# Altium footprint library Transformers.PcbLib: 13 footprints
Each footprint in its own frame and in the unit in brackets; x right, y up, seen from the top. Pads: shape width x height; smd on the part's side, far side on the other; paste and mask are expansions set on the pad; w line width, h text height; cw(c..) or ccw(c..) is an arc to the next point about the centre after c.
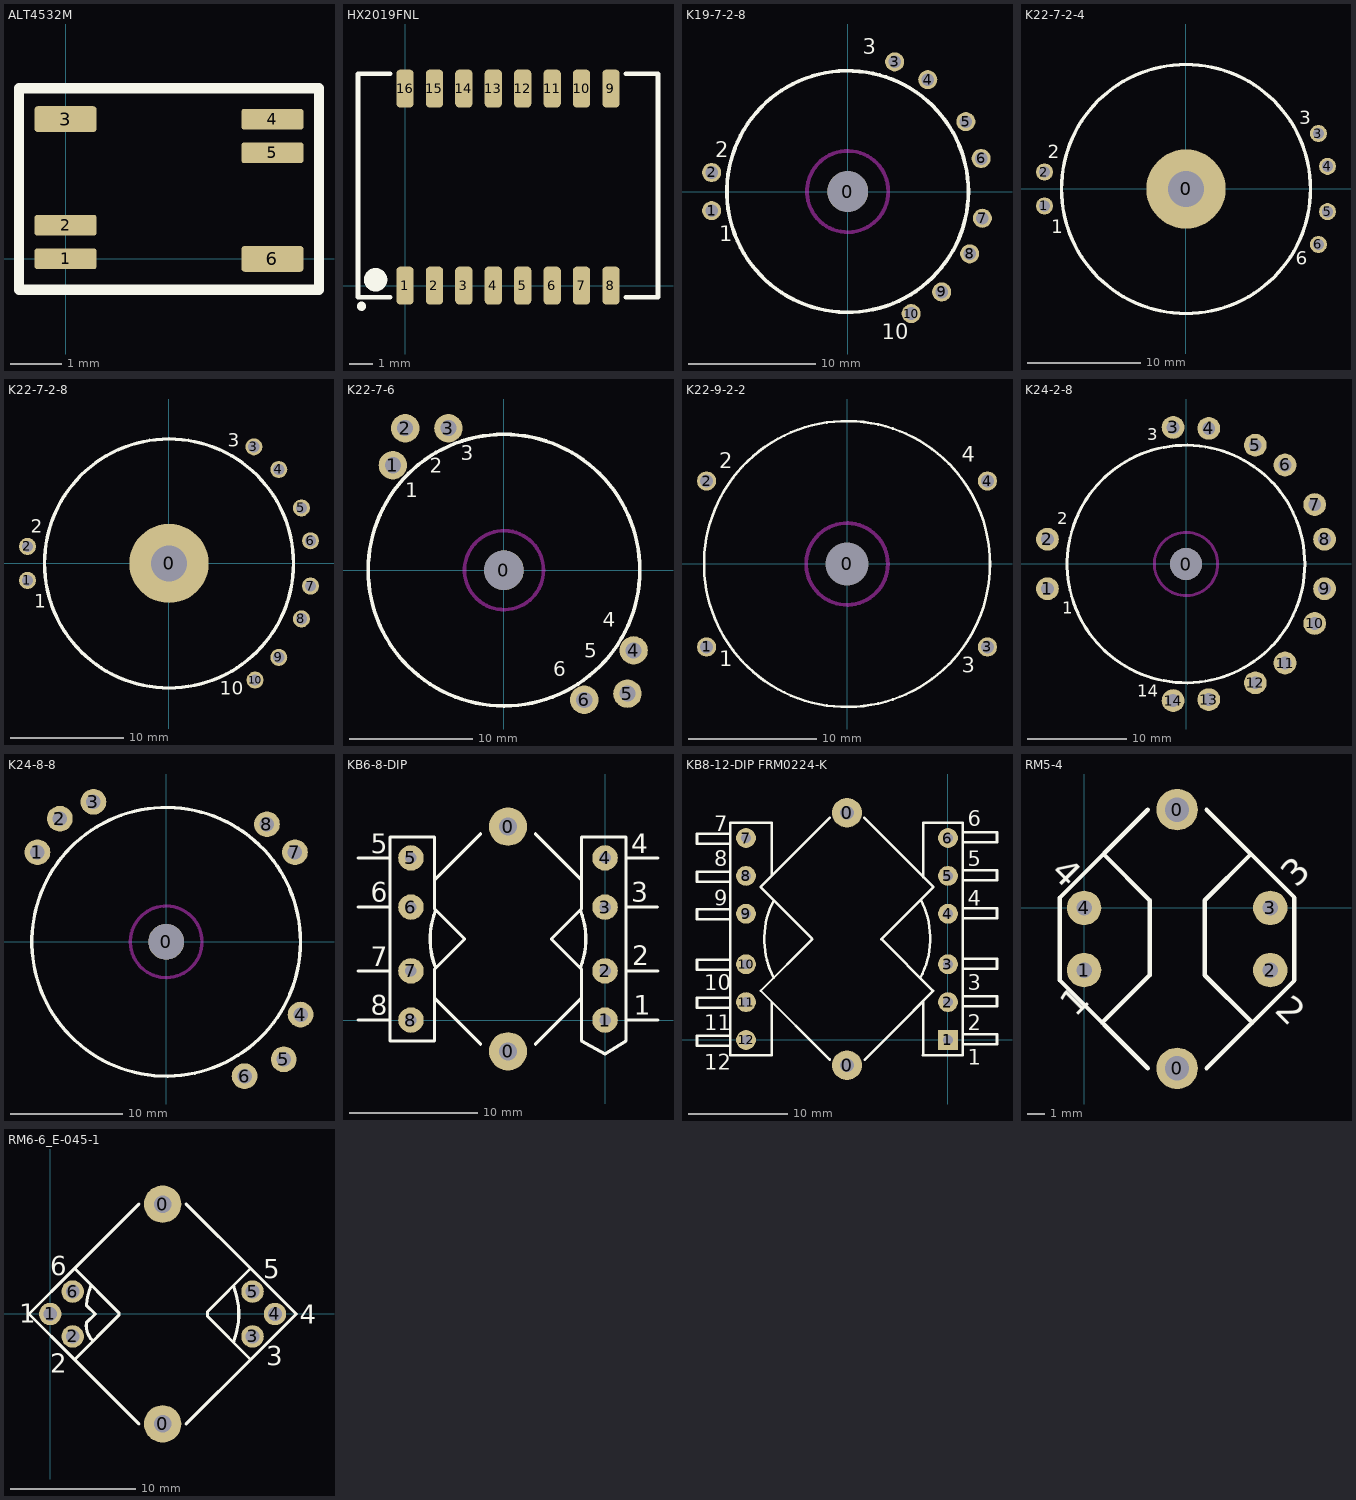
[diagram p0: the footprints below, top view; thin cyan lines are the x and y axes]

## ALT4532M [mm]
pads (6):
  rrect25% 1.2x0.4 smd: 1(0,0) 2(0,0.65) 4(4,2.7) 5(4,2.05)
  rrect25% 1.2x0.5 smd: 3(0,2.7) 6(4,0)
Top Overlay:
  lines w0.2: -0.9,-0.6 4.9,-0.6 4.9,3.3 -0.9,3.3 -0.9,-0.6
Top Assembly:
  text ".Designator" at 6.998,1.017 h1
3D body "User Library-ALT4532M.STEP": height 2.2, standoff 0, extent -0.25,-0.25 4.25,2.95

## HX2019FNL [mm]
pads (16):
  rrect50% 0.75x1.65 smd: 1(0,0) 2(1.27,0) 3(2.54,0) 4(3.81,0) 5(5.08,0) 6(6.35,0) 7(7.62,0) 8(8.89,0) 9(8.89,8.509) 10(7.62,8.509) 11(6.35,8.509) 12(5.08,8.509) 13(3.81,8.509) 14(2.54,8.509) 15(1.27,8.509) 16(0,8.509)
Top Overlay:
  circle w0.2: c-1.878,-0.889 r0.1
  circle w0.5: c-1.27,0.254 r0.254
  lines w0.2: -0.635,-0.508 -2.032,-0.508 -2.032,9.144 -0.635,9.144 ; 9.525,-0.508 10.922,-0.508 10.922,9.144 9.525,9.144
Top Assembly:
  text ".Designator" at -0.498,3.767 h1
3D body "User Library-smt4.STEP": height 5.1, standoff 0, extent -1.905,-0.381 10.795,9.019

## K19-7-2-8 [mm]
height 7
pads (11):
  round 3.2 hole 3.2 unplated: 0(0,0)
  round 1.5 hole 1: 1(-10.7,-1.5) 2(-10.7,1.5) 3(3.7,10.2) 4(6.3,8.8) 5(9.3,5.5) 6(10.5,2.6) 7(10.6,-2.1) 8(9.6,-4.9) 9(7.4,-7.9) 10(5,-9.6)
Top Overlay:
  circle w0.3: c0,0 r9.5
  text "10" at 2.7,-11.6 h1.2
  text "3" at 1.2,10.8 h1.2
  text "2" at -10.4,2.7 h1.2
  text "1" at -10.1,-3.9 h1.2
Keep-Out Layer:
  circle w0.3: c0,0 r3.2
Top Assembly:
  text ".Designator" at -4.998,-0.333 h1
  text "10" at 2.3,-8.2 h1.2
  text "9" at 5.5,-6.7 h1.2
  text "8" at 7.2,-4.5 h1.2
  text "7" at 8.1,-2.4 h1.2
  text "6" at 7.8,1.4 h1.2
  text "5" at 6.8,3.9 h1.2
  text "4" at 4.4,6.4 h1.2
  text "3" at 2.4,7.4 h1.2
  text "2" at -8.8,0.9 h1.2
  text "1" at -8.6,-2.1 h1.2
3D body: height 6, standoff 0, extent -9.5,-9.522 9.5,9.478
3D body: height 7.5, standoff 6, extent -9,-9.022 9,8.978

## K22-7-2-4 [mm]
height 7
pads (7):
  round 7 hole 3.2: 0(0,0)
  round 1.5 hole 1: 1(-12.5,-1.5) 2(-12.5,1.5) 3(11.7,4.9) 4(12.5,2) 5(12.5,-2) 6(11.7,-4.9)
Top Overlay:
  circle w0.3: c0,0 r11
  text "1" at -11.9,-3.9 h1.2
  text "2" at -12.2,2.7 h1.2
  text "3" at 10,5.7 h1.2
  text "6" at 9.7,-6.7 h1.2
Top Assembly:
  text ".Designator" at -4.998,-0.333 h1
  text "1" at -9.8,-2.2 h1.2
  text "2" at -10,0.9 h1.2
  text "3" at 8.5,3.8 h1.2
  text "4" at 9.1,1.2 h1.2
  text "5" at 8.9,-2.3 h1.2
  text "6" at 8.1,-5 h1.2
3D body: height 7, standoff 0, extent -11,-11.022 11,10.978
3D body: height 8.5, standoff 7, extent -10,-10.022 10,9.978

## K22-7-2-8 [mm]
height 7
pads (11):
  round 7 hole 3.2: 0(0,0)
  round 1.5 hole 1: 1(-12.5,-1.5) 2(-12.5,1.5) 3(7.5,10.3) 4(9.7,8.3) 5(11.7,4.9) 6(12.5,2) 7(12.5,-2) 8(11.7,-4.9) 9(9.7,-8.3) 10(7.6,-10.3)
Top Overlay:
  circle w0.3: c0,0 r11
  text "1" at -11.9,-3.9 h1.2
  text "2" at -12.2,2.7 h1.2
  text "3" at 5.2,10.3 h1.2
  text "10" at 4.5,-11.6 h1.2
Keep-Out Layer:
  circle w0.3: c0,0 r3.2
Top Assembly:
  text "1" at -10,-1.8 h1.2
  text "2" at -10.2,0.6 h1.2
  text "3" at 5.2,7.4 h1.2
  text "4" at 7.1,5.5 h1.2
  text "5" at 8.6,3 h1.2
  text "6" at 9.3,0.8 h1.2
  text "7" at 9.5,-2.3 h1.2
  text "8" at 8.6,-4.5 h1.2
  text "9" at 7.2,-6.8 h1.2
  text "10" at 4.7,-8.2 h1.2
  text ".Designator" at -4.998,-0.333 h1
3D body: height 7, standoff 0, extent -11,-11.022 11,10.978
3D body: height 8.5, standoff 7, extent -10,-10.022 10,9.978

## K22-7-6 [mm] "Дроссель"
height 7
pads (7):
  round 3.2 hole 3.2: 0(0,0)
  round 2.3 hole 1.3: 1(-9,8.5) 2(-8,11.5) 3(-4.5,11.5) 4(10.5,-6.5) 5(10,-10) 6(6.5,-10.5)
Top Overlay:
  circle w0.3: c0,0 r11
  text "4" at 8,-5 h2
  text "3" at -3.5,8.5 h2
  text "1" at -8,5.5 h2
  text "2" at -6,7.5 h2
  text "5" at 6.5,-7.5 h2
  text "6" at 4,-9 h2
Keep-Out Layer:
  circle w0.3: c0,0 r3.2
Top Assembly:
  text ".Designator" at -7.618,-0.508 h1.52
3D body: height 8.5, standoff 7, extent -10,-10.022 10,9.978
3D body: height 7, standoff 0, extent -11,-11.022 11,10.978

## K22-9-2-2 [mm] "Дроссель"
height 9
pads (5):
  round 3 hole 3.4 unplated: 0(0,0)
  round 1.5 hole 1: 1(-11,-6.5) 2(-11,6.5) 3(11,-6.5) 4(11,6.5)
Top Overlay:
  circle w0.2: c0,0 r11.2
  text "1" at -10,-8 h1.2
  text "2" at -10,7.5 h1.2
  text "3" at 9,-8.5 h1.2
  text "4" at 9,8 h1.2
Keep-Out Layer:
  circle w0.3: c0,0 r3.2
Top Assembly:
  text ".Designator" at -4.998,-0.333 h1
  text "1" at -0.4,6.4 h2
  text "2" at -0.4,-7.7 h2
3D body "K22_9.STEP": height 9.02, standoff 0.02, extent -11,-11 11,11

## K24-2-8 [mm] "Дроссель"
height 8
pads (15):
  round 3.2 hole 3.2: 0(0,0)
  round 2.3 hole 1.3: 1(-14,-2.5) 2(-14,2.5) 3(-1.3,13.8) 4(2.3,13.7) 5(7,12) 6(10,10) 7(13,6) 8(14,2.5) 9(14,-2.5) 10(13,-6) 11(10,-10) 12(7,-12) 13(2.3,-13.7) 14(-1.3,-13.8)
Top Overlay:
  circle w0.3: c0,0 r12
  text "14" at -4.9,-13.4 h1.2
  text "2" at -13,4 h1.2
  text "1" at -12.5,-5 h1.2
  text "3" at -3.9,12.5 h1.2
Keep-Out Layer:
  circle w0.3: c0,0 r3.2
Top Assembly:
  text ".Designator" at -4.998,-0.333 h1
  text "4" at 1.2,9.8 h1.2
  text "3" at -1.4,10 h1.2
  text "1" at -10.5,-3 h1.2
  text "2" at -10.5,2 h1.2
  text "5" at 4.8,8.5 h1.2
  text "6" at 7.2,6.9 h1.2
  text "7" at 9.7,3.2 h1.2
  text "8" at 10.2,0.8 h1.2
  text "9" at 10.2,-2.4 h1.2
  text "10" at 8.3,-5.2 h1.2
  text "11" at 6.3,-7.8 h1.2
  text "12" at 4.3,-9.7 h1.2
  text "13" at 1,-11.2 h1.2
  text "14" at -2.2,-11.2 h1.2
3D body: height 8, standoff 0, extent -12,-12.022 12,11.978
3D body: height 9.5, standoff 8, extent -10,-10.022 10,9.978

## K24-8-8 [mm] "Дроссель"
height 8
pads (9):
  round 3.2 hole 3.2: 0(0,0)
  round 2.3 hole 1.3: 1(-11.5,8) 2(-9.5,11) 3(-6.5,12.5) 4(12,-6.5) 5(10.5,-10.5) 6(7,-12) 7(11.5,8) 8(9,10.5)
Top Overlay:
  circle w0.3: c0,0 r12
Keep-Out Layer:
  circle w0.3: c0,0 r3.2
Top Assembly:
  text "4" at 8,-5 h2
  text "3" at -3.5,8.5 h2
  text "1" at -8,5.5 h2
  text "2" at -6,7.5 h2
  text "5" at 6.5,-7.5 h2
  text "6" at 4,-9 h2
  text ".Designator" at -4.998,-0.333 h1
3D body: height 8, standoff 0, extent -12,-12.022 12,11.978
3D body: height 9.5, standoff 8, extent -10,-10.022 10,9.978

## KB6-8-DIP [mm]
pads (10):
  round 3 hole 1.4: 0(-7.6,-2.45) 0(-7.6,15.15)
  round 2 hole 0.9: 1(0,0) 2(0,3.85) 3(0,8.85) 4(0,12.7) 5(-15.2,12.7) 6(-15.2,8.85) 7(-15.2,3.85) 8(-15.2,0)
Top Overlay:
  lines w0.254: -19.35,0 -16.85,0 ; -19.35,3.85 -16.85,3.85 ; -19.35,8.85 -16.85,8.85 ; -19.35,12.7 -16.85,12.7 ; -13.35,1.65 -13.35,-1.65 -16.85,-1.65 -16.85,14.35 -13.35,14.35 -13.35,11 ; -13.277,4.117 cw(c-7.6,6.35) -13.269,8.601 ; -9.75,-1.9 -13.35,1.7 -13.35,4 -11,6.35 -13.35,8.7 -13.35,11 ; -9.75,14.6 -13.35,11 ; -5.45,-1.9 -1.85,1.7 ; -5.45,14.6 -1.85,11 -1.85,8.7 -4.2,6.35 -1.85,4 -1.85,1.7 ; -1.936,8.614 cw(c-7.6,6.35) -1.935,4.089 ; -1.85,10.95 -1.85,14.35 1.65,14.35 1.65,-1.65 0,-2.65 -1.85,-1.65 -1.85,1.7 ; 1.65,0 4.15,0 ; 1.65,3.85 4.15,3.85 ; 1.65,8.85 4.1,8.85 ; 1.65,12.7 4.15,12.7
  text "8" at -18.35,0.4 h1.52
  text "7" at -18.35,4.2 h1.52
  text "2" at 2.15,4.3 h1.52
  text "1" at 2.25,0.4 h1.52
  text "3" at 2.05,9.25 h1.52
  text "4" at 2.05,13.05 h1.52
  text "5" at -18.35,13.05 h1.52
  text "6" at -18.35,9.25 h1.52
Top Assembly:
  text ".Designator" at -12.598,6.017 h1
3D body "RM6.STEP": height 12.6, standoff -4.67, extent -13.593,-3.4 -1.607,16.189

## KB8-12-DIP FRM0224-K [mm]
pads (14):
  round 3 hole 1.4: 0(-10.16,-2.54) 0(-10.16,22.86)
  rect 2x2 hole 1: 1(0,0)
  round 2 hole 1: 2(0,3.81) 3(0,7.62) 4(0,12.7) 5(0,16.51) 6(0,20.32) 7(-20.32,20.32) 8(-20.32,16.51) 9(-20.32,12.7) 10(-20.32,7.62) 11(-20.32,3.81) 12(-20.32,0)
Top Overlay:
  lines w0.254: -21.9,-0.57 -25.25,-0.57 -25.25,0.43 -21.9,0.43 ; -21.9,3.24 -25.25,3.24 -25.25,4.24 -21.9,4.24 ; -21.9,7.05 -25.25,7.05 -25.25,8.05 -21.9,8.05 ; -21.9,10.16 -21.9,21.86 ; -21.9,12.13 -25.25,12.13 -25.25,13.13 -21.9,13.13 ; -21.9,15.94 -25.25,15.94 -25.25,16.94 -21.9,16.94 ; -21.9,19.75 -25.25,19.75 -25.25,20.75 -21.9,20.75 ; -17.78,-1.54 -21.9,-1.54 -21.9,21.86 ; -17.78,21.86 -21.9,21.86 ; -17.715,-1.546 -17.715,3.804 ; -17.715,16.53 -17.715,21.854 ; -17.528,14.036 ccw(c-10.135,10.154) -17.519,6.255 ; -13.685,10.216 -18.854,15.385 -11.9,22.339 ; -13.635,10.154 -18.835,4.954 -11.919,-1.962 ; -8.42,22.339 -1.47,15.389 -6.704,10.154 -1.493,4.943 -3.435,3 ; -8.389,-2 -2.475,3.914 -2.475,-1.546 ; -2.78,6.252 ccw(c-10.135,10.204) -2.756,14.112 ; -2.54,-1.54 1.5,-1.54 1.5,21.86 -2.469,21.86 -2.475,21.854 -2.475,16.394 ; 1.58,-0.43 4.93,-0.43 4.93,0.57 1.58,0.57 ; 1.58,3.38 4.93,3.38 4.93,4.38 1.58,4.38 ; 1.58,7.19 4.93,7.19 4.93,8.19 1.58,8.19 ; 1.58,12.27 4.93,12.27 4.93,13.27 1.58,13.27 ; 1.58,16.07 4.93,16.07 4.93,17.07 1.58,17.07 ; 1.58,19.89 4.93,19.89 4.93,20.89 1.58,20.89
  text "12" at -24.5,-3 h1.52
  text "11" at -24.5,1 h1.52
  text "10" at -24.5,5 h1.52
  text "7" at -23.5,21 h1.52
  text "9" at -23.5,13.5 h1.52
  text "8" at -23.5,17.5 h1.52
  text "5" at 2,17.5 h1.52
  text "4" at 2,13.5 h1.52
  text "3" at 2,5 h1.52
  text "1" at 2,-2.5 h1.52
  text "2" at 2,1 h1.52
  text "6" at 2,21.5 h1.52
Top Assembly:
  text ".Designator" at -15.133,9.821 h1
3D body "User Library-RM8 transformer.STEP": height 16.7, standoff -4.25, extent -24.85,-3.05 4.55,23.361

## RM5-4 [mm]
pads (6):
  round 2.4 hole 1.4: 0(5.4,-9.3) 0(5.4,5.7)
  round 2 hole 0.9: 1(0,-3.6) 2(10.8,-3.6) 3(10.8,0) 4(0,0)
Top Overlay:
  lines w0.254: 1.05,-6.65 3.8,-3.9 3.8,0.45 1.125,3.125 ; 3.7,-9.3 -1.4,-4.2 -1.4,0.6 3.7,5.7 ; 7.1,-9.3 12.2,-4.2 12.2,0.6 7.1,5.7 ; 9.675,3.125 7,0.45 7,-3.9 9.75,-6.65
  text "4" at -2,2 h1.52
  text "2" at 11,-6 h1.52
  text "1" at -0.5,-6.4 h1.52
  text "3" at 12.3,1.1 h1.52
Top Assembly:
  text ".Designator" at 5.733,-6.798 h1
3D body: height 8, standoff 2, extent 0.5,-6.5 10.5,3.5
3D body: height 10, standoff 0, extent 1.2,-9.1 9.7,5.5

## RM6-6_E-045-1 [mm] "RM Cores B65807"
height 12.5
pads (8):
  round 3 hole 1.4: 0(9,-8.8) 0(9,8.8)
  round 1.8 hole 1.1: 1(0,0) 2(1.8,-1.8) 3(16.2,-1.8) 4(18,0) 5(16.2,1.8) 6(1.8,1.8)
Top Overlay:
  lines w0.254: 2,-3.6 5.5,-0.1 5.5,0.1 2,3.6 ; 3.285,2.305 ccw(c8.97,0.093) 2.9,0.7 3.6,0 ; 3.419,-2.165 cw(c4.67,-0.897) 2.9,-0.7 3.6,0 ; 7.1,-8.8 1.8,-3.5 -1.7,0 1.8,3.5 7.1,8.8 ; 10.9,-8.8 16.2,-3.5 19.7,0 16.2,3.5 10.9,8.8 ; 14.665,-2.261 ccw(c9,0) 14.664,2.264 ; 16,-3.6 12.6,-0.2 12.6,0.2 16,3.6 ; 3.6,0 3.6,0
  text "5" at 17.05,2.85 h1.52
  text "6" at 0,3.1 h1.52
  text "4" at 20,-0.8 h1.52
  text "2" at 0,-4.7 h1.52
  text "1" at -2.5,-0.7 h1.52
  text "3" at 17.3,-4.1 h1.52
Top Assembly:
  text ".Designator" at 4.002,-0.333 h1
3D body "User Library-RM6-1.STEP": height 12.5, standoff -4.77, extent -1.225,-9.775 19.225,9.814